# Altium schematic symbol library UWT1H101MNL1GS.SchLib: 2 symbols
Pins are listed as number, name and electrical type; pins without a type are passive.

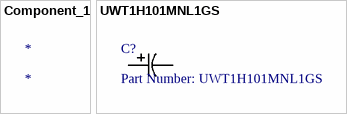
[diagram p0: symbols Component_1 to UWT1H101MNL1GS]

## Component_1
designator *

## UWT1H101MNL1GS
designator C?, comment Part Number: UWT1H101MNL1GS
No Description Available; Vendor: Nichicon; Built_By: EMA_UL_Team; Type: DEV; Manufacturer_Part_Number: UWT1H101MNL1GS; Copyright: Copyright (C) 2018 Accelerated Designs. All rights reserved; RefDes: RefDes; Value: Value
footprint PCAP_8x10-ELECT
pins: 1, 2